# EAGLE library part SN74HCS00PWR (library Birdhouse)
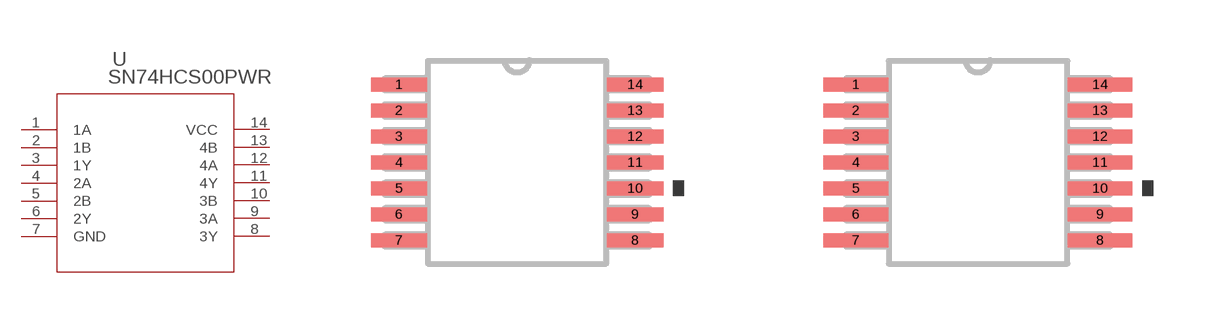
[diagram p13: symbol with the pads of TSSOP14_PW_TEX; footprints TSSOP14_PW_TEX, TSSOP14_PW_TEX-M]

Designator prefix U

## SN74HCS00PWR (COPYRIGHT: Copyright (C) 2023 Ultra Librarian. All rights reserved.; MANUFACTURER_PART_NUMBER: SN74HCS00PWR; MFR_NAME: Texas Instruments)  [TSSOP14_PW_TEX]
1  1A
2  1B
3  1Y
4  2A
5  2B
6  2Y
7  GND  pas
8  3Y
9  3A
10  3B
11  4Y
12  4A
13  4B
14  VCC  pwr

## SN74HCS00PWRTSSOP14_PW_TEX-M (COPYRIGHT: Copyright (C) 2023 Ultra Librarian. All rights reserved.; MANUFACTURER_PART_NUMBER: SN74HCS00PWR; MFR_NAME: Texas Instruments)  [TSSOP14_PW_TEX-M]
Pads as for TSSOP14_PW_TEX

## SN74HCS00PWRTSSOP14_PW_TEX-L (COPYRIGHT: Copyright (C) 2023 Ultra Librarian. All rights reserved.; MANUFACTURER_PART_NUMBER: SN74HCS00PWR; MFR_NAME: Texas Instruments)  [TSSOP14_PW_TEX-L]
Pads as for TSSOP14_PW_TEX

## Footprint TSSOP14_PW_TEX (pad centres in mm)
smd 1.41 x 0.356: 1 -2.953,1.95; 2 -2.953,1.3; 3 -2.953,0.65; 4 -2.953,0; 5 -2.953,-0.65; 6 -2.953,-1.3; 7 -2.953,-1.95; 8 2.953,-1.95; 9 2.953,-1.3; 10 2.953,-0.65; 11 2.953,0; 12 2.953,0.65; 13 2.953,1.3; 14 2.953,1.95

## Footprint TSSOP14_PW_TEX-M (pad centres in mm)
smd 1.613 x 0.356: 1 -3.054,1.95; 2 -3.054,1.3; 3 -3.054,0.65; 4 -3.054,0; 5 -3.054,-0.65; 6 -3.054,-1.3; 7 -3.054,-1.95; 8 3.054,-1.95; 9 3.054,-1.3; 10 3.054,-0.65; 11 3.054,0; 12 3.054,0.65; 13 3.054,1.3; 14 3.054,1.95

## Footprint TSSOP14_PW_TEX-L (pad centres in mm)
smd 1.168 x 0.305: 1 -2.87,1.95; 2 -2.87,1.3; 3 -2.87,0.65; 4 -2.87,0; 5 -2.87,-0.65; 6 -2.87,-1.3; 7 -2.87,-1.95; 8 2.87,-1.95; 9 2.87,-1.3; 10 2.87,-0.65; 11 2.87,0; 12 2.87,0.65; 13 2.87,1.3; 14 2.87,1.95